# EAGLE library part BC857BS (library pimoroni-ics)
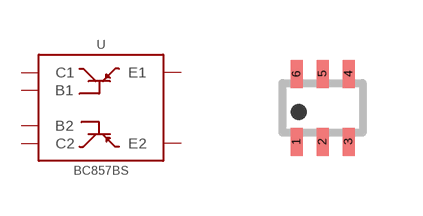
[diagram p39: symbol with the pads of SOT363_INFINEON; footprint SOT363_INFINEON]

Designator prefix U

## BC857BS  [SOT363_INFINEON]
1  E1
2  B1
3  C2
4  E2
5  B2
6  C1

## Footprint SOT363_INFINEON (pad centres in mm)
Small Outline Transistor; 6 leads Reflow soldering INFINEON, www.infineon.com/cmc_upload/0/000/010/257/eh_db_5b.pdf
smd 0.3 x 0.7: 1 -0.65,-0.85; 2 0,-0.85; 3 0.65,-0.85; 4 0.65,0.85; 5 0,0.85; 6 -0.65,0.85